# EAGLE library part 10172013-00011LF (library SamacSys_Parts)
USB-C (USB TYPE-C) USB 2.0 Receptacle Connector 24 (6+18 Dummy) Position Surface Mount, Right Angle Source: Datasheet <https://www.amphenol-cs.com/product/1017201300011lf.html>
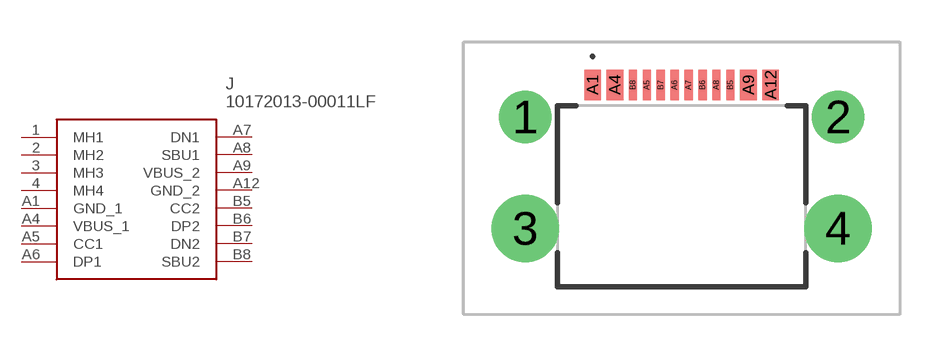
[diagram p8: symbol with the pads of 1017201300011LF; footprint 1017201300011LF]

Designator prefix J

## 10172013-00011LF (DESCRIPTION: USB-C (USB TYPE-C) USB 2.0 Receptacle Connector 24 (6+18 Dummy) Position Surface Mount, Right Angle; HEIGHT: 3.41mm; MANUFACTURER_NAME: Amphenol Communications Solutions; MANUFACTURER_PART_NUMBER: 10172013-00011LF)  [1017201300011LF]
1  MH1
2  MH2
3  MH3
4  MH4
A1  GND_1
A4  VBUS_1
A5  CC1
A6  DP1
A7  DN1
A8  SBU1
A9  VBUS_2
A12  GND_2
B5  CC2
B6  DP2
B7  DN2
B8  SBU2

## Footprint 1017201300011LF (pad centres in mm)
10172013-00011LF
drill 1.25 pad 1.875: 1 -5.62,2.475; 2 5.62,2.475
drill 1.62 pad 2.43: 3 -5.62,-1.525; 4 5.62,-1.525
smd 0.6 x 1.1: A1 -3.2,3.625; A4 -2.4,3.625; A9 2.4,3.625; A12 3.2,3.625
smd 0.3 x 1.1: A5 -1.25,3.625; A6 -0.25,3.625; A7 0.25,3.625; A8 1.25,3.625; B5 1.75,3.625; B6 0.75,3.625; B7 -0.75,3.625; B8 -1.75,3.625